# Altium schematic symbol library PE-65612NL.SchLib: 2 symbols
Pins are listed as number, name and electrical type; pins without a type are passive.

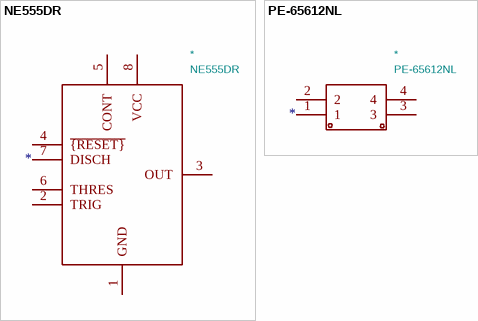
[diagram p0: symbols NE555DR to PE-65612NL]

## NE555DR
designator *  value NE555DR
Single Precision Timer; Manufacturer_Name: Texas Instruments; Footprint: SOIC127P600X175-8N; Supplier: http://www.ti.com/lit/ds/symlink/ne555.pdf; Description_: Single Precision Timer; Height: 1.75; Manufacturer_Part_Number: NE555DR; Mouser Part Number: 595-NE555DR; Mouser Price/Stock: https://www.mouser.com/Search/Refine.aspx?Keyword=595-NE555DR; RS Part Number: 1218414; RS Price/Stock: http//uk.rs-online.com/web/p/products/1218414; ki_description: Single Precision Timer
footprint SOIC127P600X175-8N
pins: 1 GND, 2 TRIG, 3 OUT, 4 ~{{RESET}}, 5 CONT, 6 THRES, 7 DISCH, 8 VCC

## PE-65612NL
designator *  value PE-65612NL
Audio Transformers / Signal Transformers THT Digital Audio 2500uH 1-Port; Manufacturer_Name: Pulse; Footprint: PE65612NL; Supplier: https://componentsearchengine.com/Datasheets/1/PE-65612NL.pdf; Description_: Audio Transformers / Signal Transformers THT Digital Audio 2500uH 1-Port; Height: 6.6; Manufacturer_Part_Number: PE-65612NL; Mouser Part Number: 673-PE-65612NL; Mouser Price/Stock: https://www.mouser.co.uk/ProductDetail/Pulse-Electronics/PE-65612NL?qs=0Ba7fqpihnjaWgPSZtGigw%3D%3D; Arrow Part Number: PE-65612NL; Arrow Price/Stock: https://www.arrow.com/en/products/pe-65612nl/pulse-electronics-corporation?region=nac; ki_description: Audio Transformers / Signal Transformers THT Digital Audio 2500uH 1-Port
footprint PE65612NL
pins: 1, 2, 3, 4